# EAGLE library part SOLARCHARGERPLACEHOLDER-NOHOLES (library DMF-SolarChargerPlaceholder)
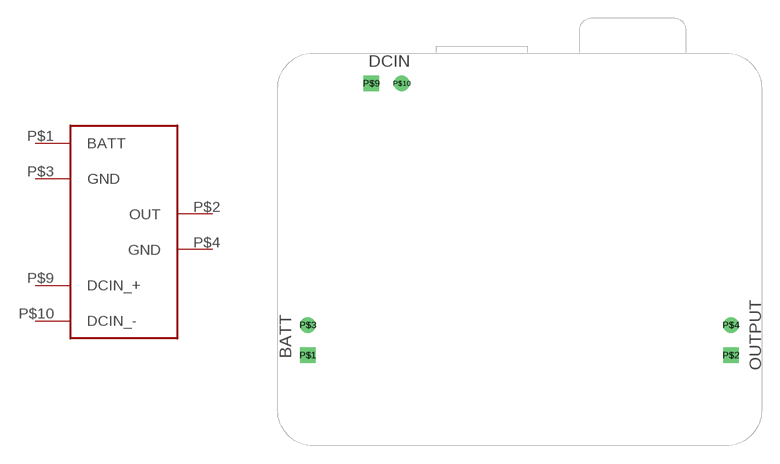
[diagram p1: symbol with the pads of SOLARCHARGERPLACEHOLDER-NOHOLES; footprint SOLARCHARGERPLACEHOLDER-NOHOLES]

Designator prefix A

## SOLARCHARGERPLACEHOLDER-NOHOLES  [SOLARCHARGERPLACEHOLDER-NOHOLES]
P$1  BATT
P$2  OUT
P$3  GND
P$4  GND
P$9  DCIN_+
P$10  DCIN_-

## Footprint SOLARCHARGERPLACEHOLDER-NOHOLES (pad centres in mm)
drill 0.8 square: P$1 2.54,7.62; P$2 38.1,7.62; P$9 7.874,30.48
drill 0.8: P$3 2.54,10.16; P$4 38.1,10.16; P$10 10.414,30.48